# Altium footprint library QB50_base_board.PcbLib: 25 footprints (part 2 of 2)
Each footprint in its own frame and in the unit in brackets; x right, y up, seen from the top. Pads: shape width x height; smd on the part's side, far side on the other; paste and mask are expansions set on the pad; w line width, h text height; cw(c..) or ccw(c..) is an arc to the next point about the centre after c.
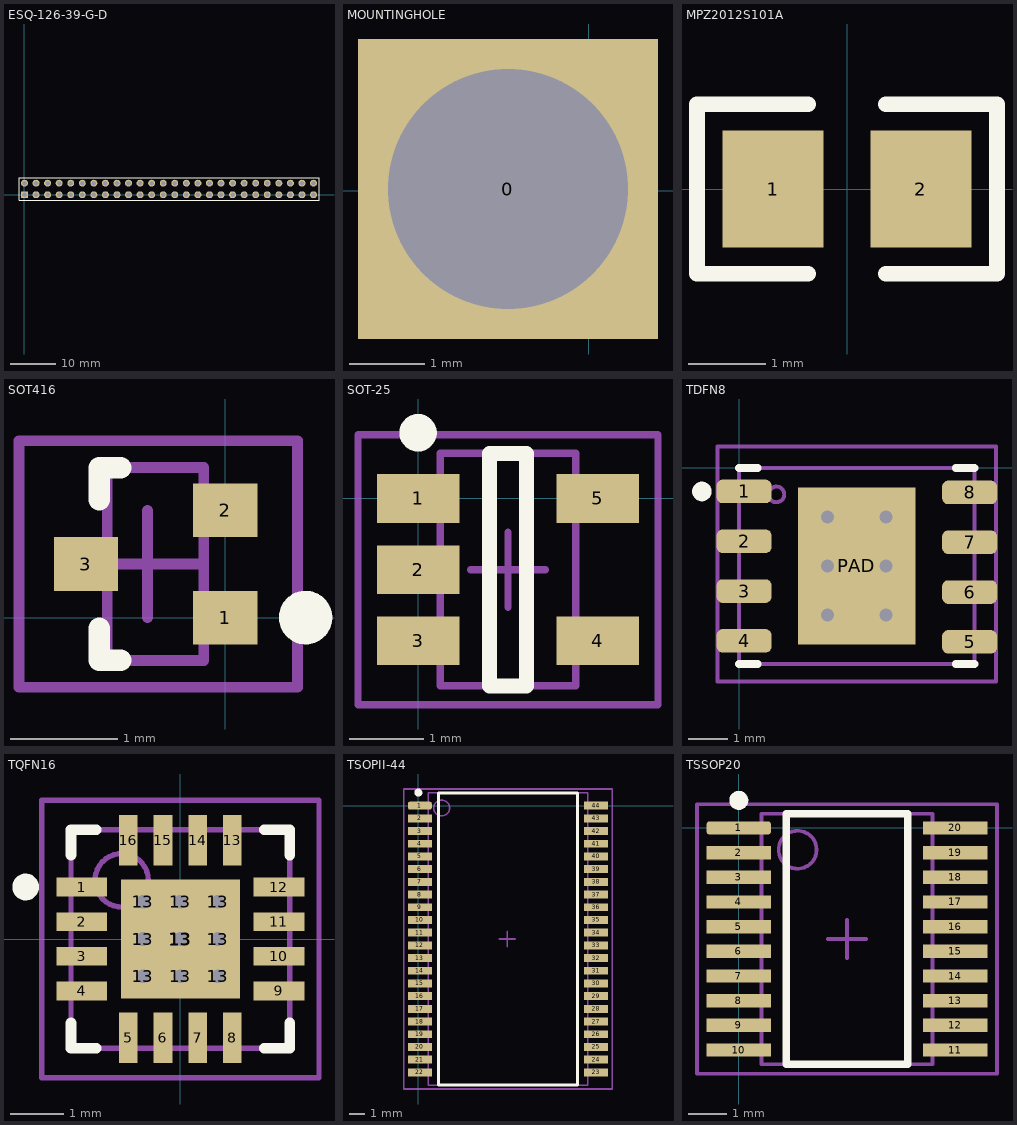
[diagram p1: the footprints below, top view; thin cyan lines are the x and y axes]

## ESQ-126-39-G-D [mil] "Cubesat header"
height 435.04
pads (52):
  rect 60x60 hole 40 mask+3: 1(0,0)
  round 60 hole 40 mask+3: 2(0,100) 3(100,0) 4(100,100) 5(200,0) 6(200,100) 7(300,0) 8(300,100) 9(400,0) 10(400,100) 11(500,0) 12(500,100) 13(600,0) 14(600,100) 15(700,0) 16(700,100) 17(800,0) 18(800,100) 19(900,0) 20(900,100) 21(1000,0) 22(1000,100) 23(1100,0) 24(1100,100) 25(1200,0) 26(1200,100) 27(1300,0) 28(1300,100) 29(1400,0) 30(1400,100) 31(1500,0) 32(1500,100) 33(1600,0) 34(1600,100) 35(1700,0) 36(1700,100) 37(1800,0) 38(1800,100) 39(1900,0) 40(1900,100) 41(2000,0) 42(2000,100) 43(2100,0) 44(2100,100) 45(2200,0) 46(2200,100) 47(2300,0) 48(2300,100) 49(2400,0) 50(2400,100) 51(2500,0) 52(2500,100)
Top Overlay:
  lines w10: -47.44,-47.44 -47.44,147.24 2547.44,147.24 2547.44,-47.44 -47.44,-47.44
3D body: height 289.76, standoff 0, extent 2486.22,-14.47 2513.78,14.07
3D body: height 289.76, standoff 0, extent 2486.22,85.53 2513.78,114.07
3D body: height 289.76, standoff 0, extent 2386.22,-14.47 2413.78,14.07
3D body: height 289.76, standoff 0, extent 2386.22,85.53 2413.78,114.07
3D body: height 289.76, standoff 0, extent 2286.22,-14.37 2313.78,14.17
3D body: height 289.76, standoff 0, extent 2286.22,85.63 2313.78,114.17
3D body: height 289.76, standoff 0, extent 2186.22,-14.37 2213.78,14.17
3D body: height 289.76, standoff 0, extent 2186.22,85.63 2213.78,114.17
3D body: height 289.76, standoff 0, extent 2086.22,-14.37 2113.78,14.17
3D body: height 289.76, standoff 0, extent 2086.22,85.63 2113.78,114.17
3D body: height 289.76, standoff 0, extent 1986.22,-14.37 2013.78,14.17
3D body: height 289.76, standoff 0, extent 1986.22,85.63 2013.78,114.17
3D body: height 289.76, standoff 0, extent 1886.22,85.63 1913.78,114.17
3D body: height 289.76, standoff 0, extent 1886.22,-14.37 1913.78,14.17
3D body: height 289.76, standoff 0, extent 1786.22,-14.37 1813.78,14.17
3D body: height 289.76, standoff 0, extent 1786.22,85.63 1813.78,114.17
3D body: height 289.76, standoff 0, extent 1686.22,-14.37 1713.78,14.17
3D body: height 289.76, standoff 0, extent 1686.22,85.63 1713.78,114.17
3D body: height 289.76, standoff 0, extent 1586.22,-14.37 1613.78,14.17
3D body: height 289.76, standoff 0, extent 1586.22,85.63 1613.78,114.17
3D body: height 289.76, standoff 0, extent 1486.22,-14.37 1513.78,14.17
3D body: height 289.76, standoff 0, extent 1486.22,85.63 1513.78,114.17
3D body: height 289.76, standoff 0, extent 1386.22,-14.37 1413.78,14.17
3D body: height 289.76, standoff 0, extent 1386.22,85.63 1413.78,114.17
3D body: height 289.76, standoff 0, extent 1286.22,-14.37 1313.78,14.17
3D body: height 289.76, standoff 0, extent 1286.22,85.63 1313.78,114.17
3D body: height 289.76, standoff 0, extent 1186.22,-14.37 1213.78,14.17
3D body: height 289.76, standoff 0, extent 1086.22,-14.37 1113.78,14.17
3D body: height 289.76, standoff 0, extent 1186.22,85.63 1213.78,114.17
3D body: height 289.76, standoff 0, extent 1086.22,85.63 1113.78,114.17
3D body: height 289.76, standoff 0, extent 986.22,-14.37 1013.78,14.17
3D body: height 289.76, standoff 0, extent 986.22,85.63 1013.78,114.17
3D body: height 289.76, standoff 0, extent 886.22,-14.37 913.78,14.17
3D body: height 289.76, standoff 0, extent 886.22,85.63 913.78,114.17
3D body: height 289.76, standoff 0, extent 786.22,-14.37 813.78,14.17
3D body: height 289.76, standoff 0, extent 786.22,85.63 813.78,114.17
3D body: height 289.76, standoff 0, extent 686.22,-14.37 713.78,14.17
3D body: height 289.76, standoff 0, extent 686.22,85.63 713.78,114.17
3D body: height 289.76, standoff 0, extent 586.22,-14.37 613.78,14.17
3D body: height 289.76, standoff 0, extent 586.22,85.63 613.78,114.17
3D body: height 289.76, standoff 0, extent 486.22,-14.37 513.78,14.17
3D body: height 289.76, standoff 0, extent 486.22,85.63 513.78,114.17
3D body: height 289.76, standoff 0, extent 386.22,-14.37 413.78,14.17
3D body: height 289.76, standoff 0, extent 386.22,85.63 413.78,114.17
3D body: height 289.76, standoff 0, extent 286.22,-14.37 313.78,14.17
3D body: height 289.76, standoff 0, extent 286.22,85.63 313.78,114.17
3D body: height 289.76, standoff 0, extent 186.22,-14.37 213.78,14.17
3D body: height 289.76, standoff 0, extent 186.22,85.63 213.78,114.17
3D body: height 289.76, standoff 0, extent 86.22,-14.37 113.78,14.17
3D body: height 289.76, standoff 0, extent 86.22,85.63 113.78,114.17
3D body: height 289.76, standoff 0, extent -13.78,-14.37 13.78,14.17
3D body: height 289.76, standoff 0, extent -13.78,85.63 13.78,114.17
3D body: height 435.04, standoff 0, extent -52.44,-52.44 2552.44,152.24

## MOUNTINGHOLE [mm] "Mouting hole 3.2mm"
pads (1):
  rect 4x4 hole 3.2: 0(-1.075,0.025)

## MPZ2012S101A [mm] "Ferrite bead inductor"
height 1.05
pads (2):
  rect 1.3x1.5 smd: 1(-0.95,0) 2(0.95,0)
Top Overlay:
  lines w0.2: -0.5,-1.092 -1.93,-1.092 -1.93,1.092 -0.5,1.092 ; 0.5,-1.092 1.93,-1.092 1.93,1.092 0.5,1.092
3D body "User Library-0805 SMD Resistor.step": height 0.8, standoff 0.02, extent -1.025,-0.64 0.975,0.61

## SOT416 [mm] "SOT416"
height 0.95
pads (3):
  rect 0.6x0.5 smd: 1(0,0) 2(0,1) 3(-1.3,0.5)
Top Overlay:
  circle w0.25: c0.75,0 r0.125
  lines w0.2: -1.175,-0.1 -1.175,-0.4 -0.975,-0.4 ; -1.175,1.1 -1.175,1.4 -0.975,1.4
Mechanical 13:
  lines w0.1: -1.1,-0.4 -0.2,-0.4 -0.2,1.4 -1.1,1.4 -1.1,-0.4
Mechanical 15:
  lines w0.1: -1.225,0.5 -0.225,0.5 ; -0.725,0 -0.725,1 ; -1.925,-0.65 0.675,-0.65 0.675,1.65 -1.925,1.65 -1.925,-0.65
3D body: height 0.95, standoff 0.1, extent -1.1,-0.4 -0.2,1.4

## SOT-25 [mm] "SOT-25"
height 1.3
pads (5):
  rect 1.1x0.65 smd: 1(0,0) 2(0,-0.95) 3(0,-1.9) 4(2.4,-1.9) 5(2.4,0)
Top Overlay:
  circle w0.25: c0,0.875 r0.125
  lines w0.2: 0.95,-2.5 1.45,-2.5 1.45,0.6 0.95,0.6 0.95,-2.5
Mechanical 13:
  lines w0.1: 0.3,-2.5 0.3,0.6 2.1,0.6 2.1,-2.5 0.3,-2.5
Mechanical 15:
  lines w0.1: 0.7,-0.95 1.7,-0.95 ; 1.2,-1.45 1.2,-0.45 ; -0.8,-2.75 -0.8,0.85 3.2,0.85 3.2,-2.75 -0.8,-2.75
3D body: height 1.45, standoff 0, extent 0.3,-2.5 2.1,0.6

## TDFN8 [mm] "8 pin TDFN"
height 2
pads (9):
  rrect50% 1.4x0.6 smd: 1(0.125,-0.6) 2(0.125,-1.87) 3(0.125,-3.14) 4(0.125,-4.41) 5(5.875,-4.435) 6(5.875,-3.165) 7(5.875,-1.895) 8(5.875,-0.625)
  rect 3x4 smd: PAD(3,-2.5)
via 2.25,-2.5 diameter 0.66 hole 0.33
via 3.75,-2.5 diameter 0.66 hole 0.33
via 3.75,-3.75 diameter 0.66 hole 0.33
via 2.25,-3.75 diameter 0.66 hole 0.33
via 3.75,-1.25 diameter 0.66 hole 0.33
via 2.25,-1.25 diameter 0.66 hole 0.33
Top Overlay:
  circle w0.25: c-0.95,-0.6 r0.125
  lines w0.2: 0,-5 0.475,-5 ; 0,0 0.475,0 ; 5.525,-5 6,-5 ; 5.525,0 6,0
Mechanical 13:
  circle w0.1: c0.95,-0.675 r0.2
  lines w0.1: 0,-5 0,0 6,0 6,-5 0,-5
Mechanical 15:
  lines w0.1: 1.55,-1.575 2.55,-1.575 ; 2.05,-2.075 2.05,-1.075 ; -0.55,-5.45 -0.55,0.55 6.55,0.55 6.55,-5.45 -0.55,-5.45
3D body: height 0.8, standoff 0, extent 0,-5 6,0

## TQFN16 [mm] "SD/MMC high - speed voltage level translator"
height 0.8
pads (26):
  rect 0.95x0.35 smd: 1(-1.85,0.975) 2(-1.85,0.325) 3(-1.85,-0.325) 4(-1.85,-0.975) 9(1.85,-0.975) 10(1.85,-0.325) 11(1.85,0.325) 12(1.85,0.975)
  rect 0.35x0.95 smd: 5(-0.975,-1.85) 6(-0.325,-1.85) 7(0.325,-1.85) 8(0.975,-1.85) 13(0.975,1.85) 14(0.325,1.85) 15(-0.325,1.85) 16(-0.975,1.85)
  round 0.508 / inner round 1.524 / far side round 0.508 hole 0.254: 13(-0.7,-0.7) 13(-0.7,0) 13(-0.7,0.7) 13(0,-0.7) 13(0,0) 13(0,0.7) 13(0.7,-0.7) 13(0.7,0) 13(0.7,0.7)
  rect 2.23x2.23 smd: 13(0,0)
Top Overlay:
  circle w0.25: c-2.9,0.975 r0.125
  lines w0.2: -2.05,-1.575 -2.05,-2.05 -1.575,-2.05 ; -2.05,1.575 -2.05,2.05 -1.575,2.05 ; 1.575,-2.05 2.05,-2.05 2.05,-1.575 ; 1.575,2.05 2.05,2.05 2.05,1.575
Mechanical 13:
  circle w0.1: c-1.1,1.1 r0.5
  lines w0.1: -2.05,-2.05 2.05,-2.05 2.05,2.05 -2.05,2.05 -2.05,-2.05
Mechanical 15:
  lines w0.1: -0.5,0 0.5,0 ; 0,-0.5 0,0.5 ; -2.6,-2.6 2.6,-2.6 2.6,2.6 -2.6,2.6 -2.6,-2.6
3D body: height 0.7, standoff 0, extent -1.599,0.601 -0.601,1.599
3D body: height 0.8, standoff 0, extent -2.05,-2.05 2.05,2.05

## TSOPII-44 [mm] "Parallel FRAM"
height 1.2
pads (44):
  rrect50% 1.5x0.5 smd: 1(0.1,0)
  rect 1.5x0.5 smd: 2(0.1,-0.8) 3(0.1,-1.6) 4(0.1,-2.4) 5(0.1,-3.2) 6(0.1,-4) 7(0.1,-4.8) 8(0.1,-5.6) 9(0.1,-6.4) 10(0.1,-7.2) 11(0.1,-8) 12(0.1,-8.8) 13(0.1,-9.6) 14(0.1,-10.4) 15(0.1,-11.2) 16(0.1,-12) 17(0.1,-12.8) 18(0.1,-13.6) 19(0.1,-14.4) 20(0.1,-15.2) 21(0.1,-16) 22(0.1,-16.8) 23(11.2,-16.8) 24(11.2,-16) 25(11.2,-15.2) 26(11.2,-14.4) 27(11.2,-13.6) 28(11.2,-12.8) 29(11.2,-12) 30(11.2,-11.2) 31(11.2,-10.4) 32(11.2,-9.6) 33(11.2,-8.8) 34(11.2,-8) 35(11.2,-7.2) 36(11.2,-6.4) 37(11.2,-5.6) 38(11.2,-4.8) 39(11.2,-4) 40(11.2,-3.2) 41(11.2,-2.4) 42(11.2,-1.6) 43(11.2,-0.8) 44(11.2,0)
Top Overlay:
  circle w0.25: c0,0.825 r0.125
  lines w0.2: 1.275,-17.6 1.275,0.8 10.025,0.8 10.025,-17.6 1.275,-17.6
Mechanical 13:
  circle w0.1: c1.47,-0.145 r0.5
  lines w0.1: 0.625,-17.605 0.625,0.805 10.68,0.805 10.68,-17.605 0.625,-17.605
Mechanical 15:
  lines w0.1: 5.1,-8.4 6.1,-8.4 ; 5.6,-8.9 5.6,-7.9 ; -0.925,-17.85 -0.925,1.05 12.225,1.05 12.225,-17.85 -0.925,-17.85
3D body: height 1.2, standoff 0.12, extent 0.625,-17.6 10.675,0.8

## TSSOP20 [mm] "8-bit voltage level translator, TSOP"
height 1.2
pads (20):
  rrect50% 1.7x0.35 smd: 1(0,0)
  rect 1.7x0.35 smd: 2(0,-0.65) 3(0,-1.3) 4(0,-1.95) 5(0,-2.6) 6(0,-3.25) 7(0,-3.9) 8(0,-4.55) 9(0,-5.2) 10(0,-5.85) 11(5.7,-5.85) 12(5.7,-5.2) 13(5.7,-4.55) 14(5.7,-3.9) 15(5.7,-3.25) 16(5.7,-2.6) 17(5.7,-1.95) 18(5.7,-1.3) 19(5.7,-0.65) 20(5.7,0)
Top Overlay:
  circle w0.25: c0,0.725 r0.125
  lines w0.2: 1.25,-6.225 4.45,-6.225 4.45,0.375 1.25,0.375 1.25,-6.225
Mechanical 13:
  circle w0.1: c1.55,-0.575 r0.5
  lines w0.1: 0.6,-6.225 5.1,-6.225 5.1,0.375 0.6,0.375 0.6,-6.225
Mechanical 15:
  lines w0.1: 2.35,-2.925 3.35,-2.925 ; 2.85,-3.425 2.85,-2.425 ; -1.1,-6.475 -1.1,0.625 6.8,0.625 6.8,-6.475 -1.1,-6.475
3D body: height 1.2, standoff 0.25, extent 0.6,-6.225 5.1,0.375